# Altium footprint library SOT.PcbLib: 1 footprints
Each footprint in its own frame and in the unit in brackets; x right, y up, seen from the top. Pads: shape width x height; smd on the part's side, far side on the other; paste and mask are expansions set on the pad; w line width, h text height; cw(c..) or ccw(c..) is an arc to the next point about the centre after c.
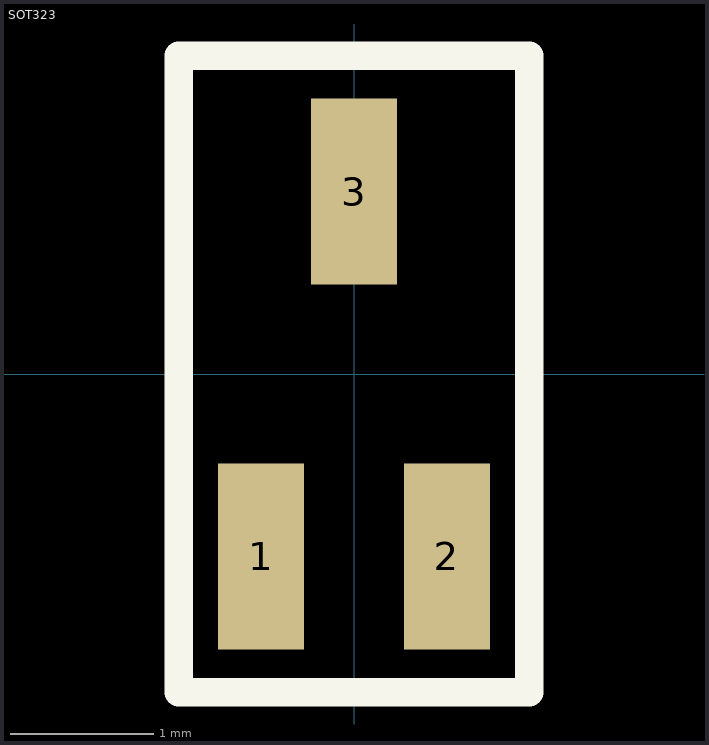
[diagram p0: the footprint, top view; thin cyan lines are the x and y axes]

## SOT323 [mm] "SOT323, 3 pins"
height 1.2
pads (3):
  rect 0.6x1.3 smd: 1(-0.65,-1.275) 2(0.65,-1.275) 3(0,1.275)
Top Overlay:
  lines w0.2: -1.225,-2.225 1.225,-2.225 1.225,2.225 -1.225,2.225 -1.225,-2.225
3D body: height 1.05, standoff -0.02, extent -1,-1.05 1,1.05